# Altium schematic symbol library ATMEGA126.SchLib: 4 symbols
Pins are listed as number, name and electrical type; pins without a type are passive.

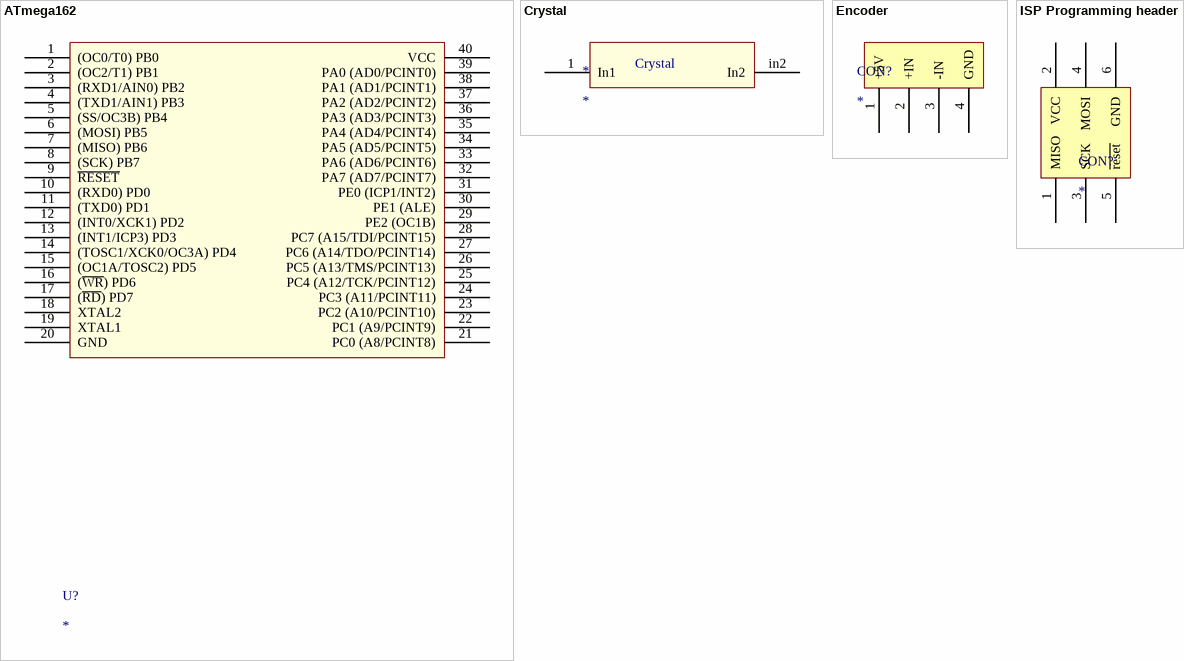
[diagram p0: symbols ATmega162 to ISP Programming header]

## ATmega162
designator U?
footprint ATmega162 (TQFP, 48-Leads, Body 10.00x10.00mm, Pitch 0.80mm, IPC Medium Density)
pins: 1 (OC0/T0) PB0, 2 (OC2/T1) PB1, 3 (RXD1/AIN0) PB2, 4 (TXD1/AIN1) PB3, 5 (SS/OC3B) PB4, 6 (MOSI) PB5, 7 (MISO) PB6, 8 (SCK) PB7, 9 ~{RESET}, 10 (RXD0) PD0, 11 (TXD0) PD1, 12 (INT0/XCK1) PD2, 13 (INT1/ICP3) PD3, 14 (TOSC1/XCK0/OC3A) PD4, 15 (OC1A/TOSC2) PD5, 16 (~{WR}) PD6, 17 (~{RD}) PD7, 18 XTAL2, 19 XTAL1, 20 GND (power), 21 PC0 (A8/PCINT8), 22 PC1 (A9/PCINT9), 23 PC2 (A10/PCINT10), 24 PC3 (A11/PCINT11), 25 PC4 (A12/TCK/PCINT12), 26 PC5 (A13/TMS/PCINT13), 27 PC6 (A14/TDO/PCINT14), 28 PC7 (A15/TDI/PCINT15), 29 PE2 (OC1B), 30 PE1 (ALE), 31 PE0 (ICP1/INT2), 32 PA7 (AD7/PCINT7), 33 PA6 (AD6/PCINT6), 34 PA5 (AD5/PCINT5), 35 PA4 (AD4/PCINT4), 36 PA3 (AD3/PCINT3), 37 PA2 (AD2/PCINT2), 38 PA1 (AD1/PCINT1), 39 PA0 (AD0/PCINT0), 40 VCC (power)

## Crystal
designator *
footprint Crystal
pins: 1 In1, in2 In2

## Encoder
designator CON?
footprint ENCODER
pins: 1 +5V (power), 2 +IN, 3 -IN, 4 GND (power)

## ISP Programming header
designator CON?
footprint ISP programming header
pins: 1 MISO, 2 VCC (power), 3 SCK, 4 MOSI, 5 ~{reset}, 6 GND (power)